# Altium schematic symbol library PJ-320A-New.SchLib: 1 symbol
Pins are listed as number, name and electrical type; pins without a type are passive.

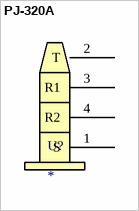
[diagram p0: symbol PJ-320A]

## PJ-320A
designator U?
A thru hole 3.5mm TRRS audio jack connector
footprint PCBComponent_1
pins: 1 S, 2 T, 3 R1, 4 R2